# EAGLE library part SAM-L21E (library SAML21-TQFP32)
SAM L21E Microcontroller
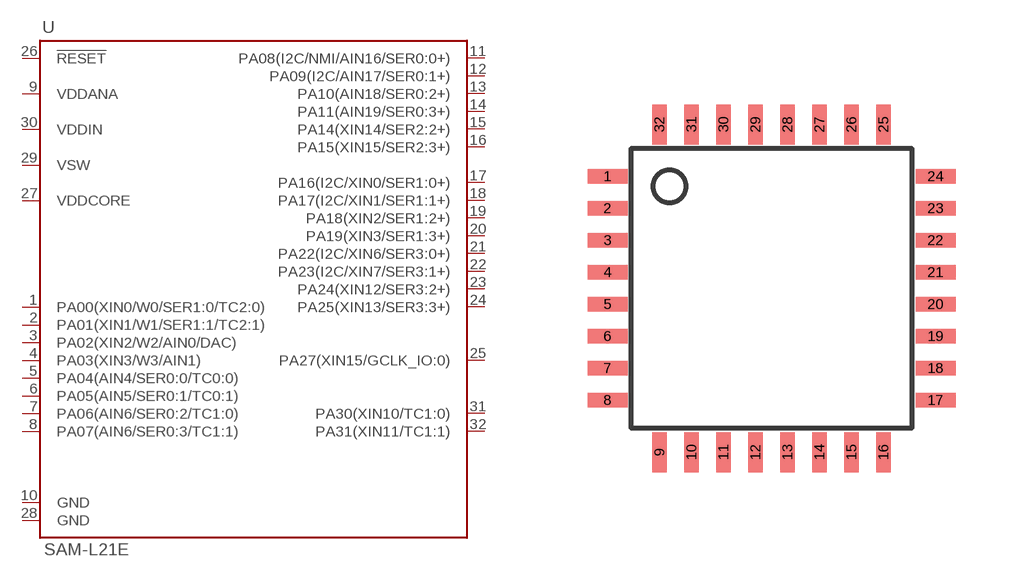
[diagram p0: symbol with the pads of TQFP32; footprint TQFP32]

Designator prefix -

## SAM-L21E  [TQFP32]
1  PA00(XIN0/W0/SER1:0/TC2:0)
2  PA01(XIN1/W1/SER1:1/TC2:1)
3  PA02(XIN2/W2/AIN0/DAC)
4  PA03(XIN3/W3/AIN1)
5  PA04(AIN4/SER0:0/TC0:0)
6  PA05(AIN5/SER0:1/TC0:1)
7  PA06(AIN6/SER0:2/TC1:0)
8  PA07(AIN6/SER0:3/TC1:1)
9  VDDANA
10  GND
11  PA08(I2C/NMI/AIN16/SER0:0+)
12  PA09(I2C/AIN17/SER0:1+)
13  PA10(AIN18/SER0:2+)
14  PA11(AIN19/SER0:3+)
15  PA14(XIN14/SER2:2+)
16  PA15(XIN15/SER2:3+)
17  PA16(I2C/XIN0/SER1:0+)
18  PA17(I2C/XIN1/SER1:1+)
19  PA18(XIN2/SER1:2+)
20  PA19(XIN3/SER1:3+)
21  PA22(I2C/XIN6/SER3:0+)
22  PA23(I2C/XIN7/SER3:1+)
23  PA24(XIN12/SER3:2+)
24  PA25(XIN13/SER3:3+)
25  PA27(XIN15/GCLK_IO:0)
26  !RESET
27  VDDCORE
28  GND
29  VSW
30  VDDIN
31  PA30(XIN10/TC1:0)
32  PA31(XIN11/TC1:1)

## Footprint TQFP32 (pad centres in mm)
TQFP-32 package for microcontrollers
smd 1 x 0.37: 1 -4.1,2.8; 2 -4.1,2; 3 -4.1,1.2; 4 -4.1,0.4; 5 -4.1,-0.4; 6 -4.1,-1.2; 7 -4.1,-2; 8 -4.1,-2.8; 17 4.1,-2.8; 18 4.1,-2; 19 4.1,-1.2; 20 4.1,-0.4; 21 4.1,0.4; 22 4.1,1.2; 23 4.1,2; 24 4.1,2.8
smd 0.37 x 1: 9 -2.8,-4.1; 10 -2,-4.1; 11 -1.2,-4.1; 12 -0.4,-4.1; 13 0.4,-4.1; 14 1.2,-4.1; 15 2,-4.1; 16 2.8,-4.1; 25 2.8,4.1; 26 2,4.1; 27 1.2,4.1; 28 0.4,4.1; 29 -0.4,4.1; 30 -1.2,4.1; 31 -2,4.1; 32 -2.8,4.1